# Altium schematic symbol library MySchLib.SchLib: 44 symbols
Pins are listed as number, name and electrical type; pins without a type are passive.

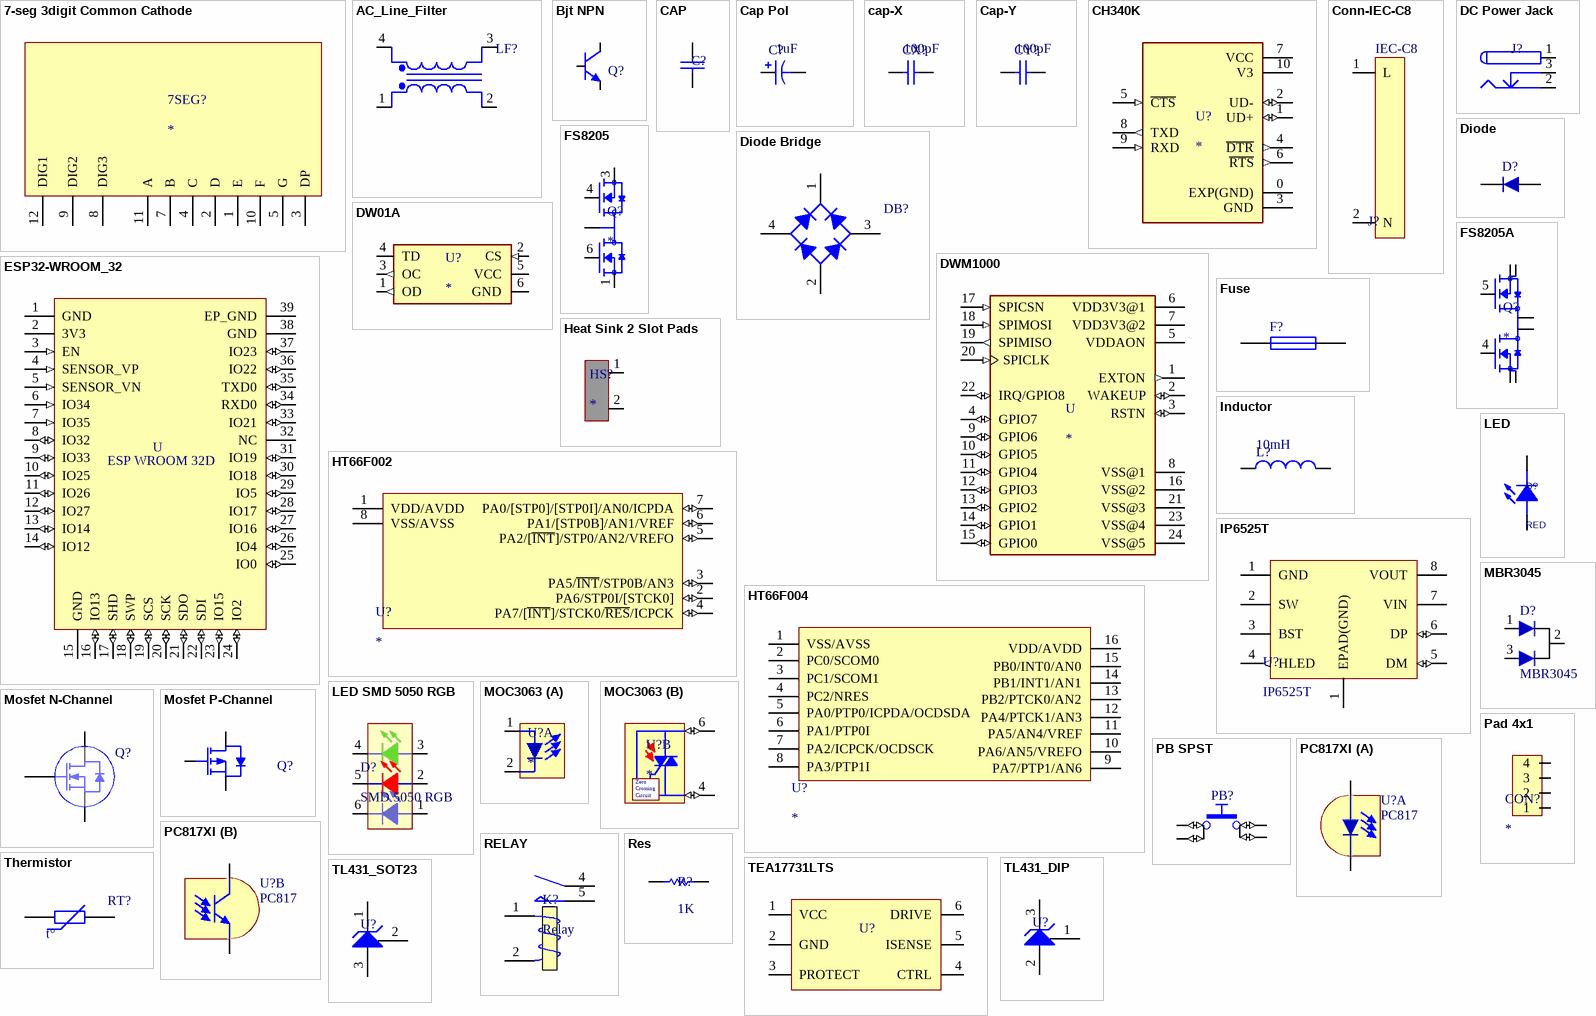
[diagram p0: symbols 7-seg 3digit Common Cathode to TL431_SOT23]

## 7-seg 3digit Common Cathode
designator 7SEG?
footprint 7-seg 0.36in 3-digit
pins: 1 E, 2 D, 3 DP, 4 C, 5 G, 7 B, 8 DIG3, 9 DIG2, 10 F, 11 A, 12 DIG1

## AC_Line_Filter
designator LF?
AC Line filter choke; Published: 8-Jun-2000; LatestRevisionDate: 17-Jul-2002; LatestRevisionNote: Re-released for DXP Platform.; PackageReference: TRF_4; Publisher: Altium Limited; PackageDescription: Transformer; 4 Leads
footprint LINEFILTER-7x8mm
pins: 1, 2, 3, 4  

## Bjt NPN
designator Q?
45 V, 500 mA NPN general-purpose transistors; Published: 2017-2-8; LatestRevisionDate: 2017; LatestRevisionNote: IPC-7351 Footprint Added.; DatasheetVersion: 2017; PackageVersion: 2017-2-8; PackageReference: SOT23; Publisher: Abbas Basereh; PackageDescription: 3-Pin SOT-23 Package 0.95 mm Pitch, 2.3 mm Lead Span; ComponentLink1Description: Manufacturer Link; ComponentLink1URL: http://www.nxp.com/; ComponentLink2Description: Datasheet; ComponentLink2URL: http://www.nxp.com/
footprint SOT-23_N (SOT23, 3-Leads, Body 2.9x1.3mm, Pitch 0.95mm, Lead Span 2.5mm, IPC Medium Density)
pins: 1 B, 2 E, 3 C

## CAP
designator C?
CAP 0805; Designer: Abbas Basereh; Desc.: CAP SMD 0805; Data: 16-12-2016
footprint CAP0805 (Chip Capacitor, 2-Leads, Body 2/00x1/25mm, IPC Medium Density DESIGNER:ABBAS BASEREH)
footprint CAP1206 (Chip Capacitor, 2-Leads, Body 3/20x1/60mm, IPC Medium Density DESIGNER:ABBAS BASEREH)
footprint Cap Film (W23_0_H14_5_T8_0_P20)
pins: 1, 2

## Cap Pol
designator C?  value 1uF
Polarized Capacitor; Published: 8-Jun-2000; LatestRevisionDate: 17-Jul-2002; LatestRevisionNote: Re-released for DXP Platform.; PackageReference: POLAR0.8; Publisher: Altium Limited; PackageDescription: Polarized Capacitor; 2 Leads
footprint CAP-Electrolitic-Hor-p7.5mm-D16mm-L27mm
footprint CAP-Electrolitic-Hor-LA-p2.5mm-D4mm-L9mm
footprint CAP-Electrolitic-Hor-LA-p7.5mm-D16mm-L27mm
footprint Cap electrolitic radial 10x16-5 (Cap electrolitic radial 10x16-5-Design:Abbas Basereh)
footprint Cap electrolitic radial 8x12-3.5 (Cap electrolitic radial 8x12-3.5-Design:Abbas Basereh)
footprint Cap electrolitic HOR-8x12-P3.5 (Cap electrolitic horisontal 8x12-3.5-Design:Mostafa)
pins: 1, 2
1 alternate drawing of the same symbol

## cap-X
designator CX?  value 100pF
Capacitor; Published: 8-Jun-2000; LatestRevisionDate: 17-Jul-2002; LatestRevisionNote: Re-released for DXP Platform.; PackageReference: RAD-0.3; Publisher: Altium Limited; PackageDescription: Radial Cap, Thru-Hole; 2 Leads; 0.3 in Pin Spacing
footprint CAP-MKT-15mm
pins: 1, 2

## Cap-Y
designator CY?  value 100pF
Capacitor; Published: 8-Jun-2000; LatestRevisionDate: 17-Jul-2002; LatestRevisionNote: Re-released for DXP Platform.; PackageReference: RAD-0.3; Publisher: Altium Limited; PackageDescription: Radial Cap, Thru-Hole; 2 Leads; 0.3 in Pin Spacing
footprint CAPRadial-5mm
footprint CAPRadial-7mm
pins: 1, 2

## CH340K
designator U?
USB to Serial Port Chip; MF: WCH; MP: CH340K; SnapEDA_Link: https://www.snapeda.com/parts/CH340K/WCH/view-part/?ref=snap; Package: Package; Value: *; Check_prices: https://www.snapeda.com/parts/CH340K/WCH/view-part/?ref=eda
footprint ESSOP-10
pins: 0 EXP(GND) (power), 1 UD+ (io), 2 UD- (io), 3 GND (power), 4 ~{DTR} (out), 5 ~{CTS} (in), 6 ~{RTS} (out), 7 VCC (power), 8 TXD (out), 9 RXD (in), 10 V3 (power)

## Conn-IEC-C8
designator J?
footprint Conn-IEC-C8
pins: 1 L, 2 N
text: IEC-C8

## DC Power Jack
designator J?  (value not drawn)
DC Power Jack. Center Pin 2.5mm. Diameter: 5.7mm; Designer: Ali Hafizi; Company: Personal; Project Name: Laser; Adding Date: 10/21/2009
footprint DC Power Jack 1 (Power Adaptor Jack)
footprint DC Power Jack 2 (DC Power Jack. Center Pin 2.5mm. Diameter: 5.7mm)
footprint Jack-DC002 3.5*1.3mmm (Dc power jack fermale)
pins: 1 (power), 2 (power), 3 (power)

## Diode
designator D?  (value not drawn)
Diode DIP Package; Published: 8-Jun-2000; LatestRevisionDate: 17-Jul-2002; LatestRevisionNote: Re-released for DXP Platform.; DatasheetVersion: 1997; Publisher: Altium Limited; PackageDescription: Diode, Axial; Body 3.8 x 1.9 mm (LxDia. max), Lead Dia. 0.53 mm (max); Code_JEDEC: DO-204-AH; ComponentLink1Description: Manufacturer Link; ComponentLink1URL: http://www.fairchildsemi.com/; ComponentLink2Description: Datasheet; ComponentLink2URL: http://www.fairchildsemi.com/ds/1N%2F1N4148.pdf
footprint DO 35 (Diode)
footprint DO-41 (Diode, Axial; Body 5.2 x 2.7 mm (LxDia. max), Lead Dia. 0.86 mm (max))
footprint DIOD - SMA
footprint SOD123 (SOD-123; 2 Leads; Body 2.7 x 1.6 mm, (LxW))
pins: 1, 2

## Diode Bridge
designator DB?  (value not drawn)
Full Wave Diode Bridge; Designer: Abbas Basereh; Design Date: 1395/11/09; ComponentLink1Description: Datasheet; ComponentLink2Description: Reference; Mounting Technology: Surface Mount\Through-Hole; Status: Unreleased
footprint BRIDGE KBP_LARGE
footprint SOIC-4_W
pins: 1 +, 2 -, 3 AC, 4 AC

## DW01A
designator U?
One Cell Lithium-ion/Polymer Battery Protection IC; MF: Fortune Semiconductor; MP: DW01A; SnapEDA_Link: https://www.snapeda.com/parts/DW01A/Fortune+Semiconductor/view-part/?ref=snap; Package: SOT-23-6 Fortune Semiconductor; Value: *; Check_prices: https://www.snapeda.com/parts/DW01A/Fortune+Semiconductor/view-part/?ref=eda
footprint SOT23-6
pins: 1 OD (out), 2 CS (in), 3 OC (out), 4 TD, 5 VCC (power), 6 GND (power)

## DWM1000
designator U
802.15.4 IR-UWB Transceiver Module 3.5GHz ~ 6.5GHz Integrated, Chip Surface Mount; MF: Decawave Limited; MP: DWM1000; Package: Module Decawave; Availability: Unavailable; Value: *; SnapEDA_Link: https://www.snapeda.com/parts/DWM1000/Decawave%20Limited/view-part/327593/?ref=snap; Price: None
footprint XCVR_DWM1000
pins: 1 EXTON (out), 2 WAKEUP (io), 3 RSTN (io), 4 GPIO7 (io), 5 VDDAON (power), 6 VDD3V3@1 (power), 7 VDD3V3@2 (power), 8 VSS@1 (power), 9 GPIO6 (io), 10 GPIO5 (io), 11 GPIO4 (io), 12 GPIO3 (io), 13 GPIO2 (io), 14 GPIO1 (io), 15 GPIO0 (io), 16 VSS@2 (power), 17 SPICSN (in), 18 SPIMOSI (in), 19 SPIMISO (out), 20 SPICLK (in), 21 VSS@3 (power), 22 IRQ/GPIO8 (io), 23 VSS@4 (power), 24 VSS@5 (power)

## ESP32-WROOM_32
designator U
ESP32-WROOM-32 module
footprint ESP32-WROOM-32D
pins: 1 GND, 2 3V3, 3 EN (in), 4 SENSOR_VP (in), 5 SENSOR_VN (in), 6 IO34 (in), 7 IO35 (in), 8 IO32 (io), 9 IO33 (io), 10 IO25 (io), 11 IO26 (io), 12 IO27 (io), 13 IO14 (io), 14 IO12 (io), 15 GND, 16 IO13 (io), 17 SHD (io), 18 SWP (io), 19 SCS (io), 20 SCK (io), 21 SDO (io), 22 SDI (io), 23 IO15 (io), 24 IO2 (io), 25 IO0 (io), 26 IO4 (io), 27 IO16 (io), 28 IO17 (io), 29 IO5 (io), 30 IO18 (io), 31 IO19 (io), 32 NC, 33 IO21 (io), 34 RXD0 (io), 35 TXD0 (io), 36 IO22 (io), 37 IO23 (io), 38 GND, 39 EP_GND
text: ESP WROOM 32D

## FS8205
designator Q?
Dual N-Channel Enhancement Mode Power MOSFET SOT23-6 package; MP: FS8205; MF: Fortune Semiconductor; SnapEDA_Link: https://www.snapeda.com/parts/FS8205/Fortune+Semiconductor/view-part/?ref=snap; Package: Package; Check_prices: https://www.snapeda.com/parts/FS8205/Fortune+Semiconductor/view-part/?ref=eda; Price: None; Value: *; Availability: Not in stock
footprint SOT23-6
pins: 1 S1, 2 D12, 3 S2, 4 G2, 5 D12, 6 G1

## FS8205A
designator Q?
Dual N-Channel Enhancement Mode Power MOSFET TSSOP-8 package; MP: FS8205A; MF: Fortune Semiconductor; Value: *; Availability: Not in stock; Package: Package; Price: None; SnapEDA_Link: https://www.snapeda.com/parts/FS8205A/Fortune+Semiconductor/view-part/?ref=snap; Check_prices: https://www.snapeda.com/parts/FS8205A/Fortune+Semiconductor/view-part/?ref=eda
footprint TSSOP-8
pins: 1 D12, 2 S1, 3 S1, 4 G1, 5 G2, 6 S2, 7 S2, 8 D12

## Fuse
designator F?
Fuse; Published: 8-Jun-2000; LatestRevisionDate: 17-Jul-2002; LatestRevisionNote: Re-released for DXP Platform.; PackageReference: PIN-W2/E2.8; Publisher: Altium Limited; PackageDescription: Thru-Hole; 2 Leads
footprint Fuse-DIP-p11.6mm
pins: 1, 2

## Heat Sink 2 Slot Pads
designator HS?
footprint Heat Sink 2 Slots
pins: 1, 2

## HT66F002
designator U?
Holtek 8bit MCU
footprint sop8
pins: 1 VDD/AVDD (power), 2 PA6/STP0I/[STCK0] (io), 3 PA5/~{INT}/STP0B/AN3 (io), 4 PA7/[~{INT}]/STCK0/~{RES}/ICPCK (io), 5 PA2/[~{INT}]/STP0/AN2/VREFO (io), 6 PA1/[STP0B]/AN1/VREF (io), 7 PA0/[STP0]/[STP0I]/AN0/ICPDA (io), 8 VSS/AVSS (power)

## HT66F004
designator U?
footprint SOP16
pins: 1 VSS/AVSS, 2 PC0/SCOM0, 3 PC1/SCOM1, 4 PC2/NRES, 5 PA0/PTP0/ICPDA/OCDSDA, 6 PA1/PTP0I, 7 PA2/ICPCK/OCDSCK, 8 PA3/PTP1I, 9 PA7/PTP1/AN6, 10 PA6/AN5/VREFO, 11 PA5/AN4/VREF, 12 PA4/PTCK1/AN3, 13 PB2/PTCK0/AN2, 14 PB1/INT1/AN1, 15 PB0/INT0/AN0, 16 VDD/AVDD

## Inductor
designator L?  value 10mH
Inductor; Code_IEC: 1005; Published: 8-Jun-2000; LatestRevisionDate: 29-May-2009; LatestRevisionNote: IPC-7351 Footprint Added.; PackageReference: 0402-A; Publisher: Altium Limited; PackageDescription: Chip Inductor; Code_JEITA: 0402
footprint POWER-INDUCTOR-8095
footprint IND1206 (Chip Inductor, 2-Leads, Body 3/20x1/60mm, IPC Medium Density DESIGNER:ABBAS BASEREH)
pins: 1, 2

## IP6525T
designator U?
18W OUTPUT STEP-DOWN CONVERTER with FAST CHARGE PROTOCOLS (DCP/QC2.0/QC3.0 FCP/AFC)
footprint ESOP8 (SOP with EPAD)
pins: 1 GND (power), 1 EPAD(GND) (power), 2 SW, 3 BST, 4 HLED (out), 5 DM (io), 6 DP (io), 7 VIN (power), 8 VOUT

## LED
designator D?, comment RED
Light Emitting Diode; Designer: Abbas Basereh; Data: 16-12-2016; Link: *; Part.No: *
footprint LED_5mm (LED 5MM THROUGH HOLE)
footprint LED0805
footprint LED3mm_P2.54_G
pins: 1 ANODE, 2 CATHODE

## LED SMD 5050 RGB
designator D?, comment Comment_1: SMD 5050 RGB  (hidden comment: probably led colors not mach to real please check the device and change the component)
SMD 5050 RGB LED; Designer: Abbas Basereh; Design Date: 1395/11/10; ComponentLink1Description: SMD 5050 RGB; ComponentLink1URL: http://www.yuanlei-led.com; ComponentLink2Description: Reference; PackageDescription: SMD 5050 RGB; Publisher: Abbas Basereh; Mounting Technology: Surface Mount; HelpURL: probably color of the leds not mached real please check and change; Pin Count: 6; Status: Unreleased
footprint 5050 LED package (DESIGNER ABBAS BASEREH)
pins: 1, 2, 3, 4, 5, 6

## MBR3045
designator D?
Power Schottky; Manufacturer: VISHAY; Designer: Mostafa Yaghmaei; Link: https://www.aliexpress.com/item/100PCS-MBR2045CT-MBR2045-MBR2045C-TO220/32576607386.html?spm=2114.01010208.3.1.vWJGYC&ws_ab_test=searchweb0_0,searchweb201602_4_10065_10068_10084_10083_10080_10082_10081_10060_10061_10062_10056_10055_10054_10059_10099_10078_10079_427_10073_10103_10102_10096_10052_10050_10051,searchweb201603_4&btsid=59d3c580-949c-4e8a-9059-0fcae782ffc8; Link: http://www.tme.eu/en/details/mbr2045ct-e3_45/tht-universal-diodes/vishay/; Link: http://www.digikey.com/product-detail/en/diodes-incorporated/MBR2045CTF-G1/MBR2045CTF-G1DI-ND/5453096; Part. No: MBR3045
footprint TO-220 AB (Epoxy meets UL94, V0-Design:Abbas Basereh)
pins: 1 A1 (power), 2 K (power), 3 A2 (power)

## MOC3063
designator U?
Zero-cross triac driver opto triac
footprint DIP6_surface mount
footprint DIP6-300 (DIP 6 Leads; Row Spacing 7.62 mm; Pitch 2.54 mm)
part A pins: 1 A, 2 K
part B pins: 4 (io), 6 (io)
part B text: Zero; Crossing; Circuit

## Mosfet N-Channel
designator Q?  (value not drawn)
MOSFET N-CH; Published: 2017-1-12; DatasheetVersion: 2017-1-12; PackageVersion: 2017-1-12; PackageReference: TO-220AB; Publisher: Abbas Basereh; PackageDescription: MOSFET N-CH 400V 10A TO-220AB; ComponentLink1Description: http://www.digikey.com/products/en/discrete-semiconductor-products/19; ComponentLink1URL: http://www.digikey.com/product-detail/en/vishay-siliconix/IRF740PBF/IRF740PBF-ND/812037; ComponentLink2Description: Datasheet; ComponentLink2URL: http://www.roboeq.ir/files/id/1101/name/IRF740A.pdf
footprint TO-220 (Epoxy meets UL94, V0)
pins: 1 G, 2 D (power), 3 S (power)

## Mosfet P-Channel
designator Q?
P-channel MOSFET; Note: Pin 2 is trimmed (and not drawn) and is electrically connected to Drain; Published: 2017-1-12; DatasheetVersion: 2017-1-12; PackageVersion: 2017-1-12; PackageReference: D-PAK TO-252; Publisher: Abbas Basereh; PackageDescription: D-PAK TO-252; ComponentLink1Description: Manufacturer Link; ComponentLink2Description: Datasheet; ComponentLink2URL: http://www.roboeq.ir/files/id/2912/name/aod472.pdf/
footprint SOT-23_N (SOT23, 3-Leads, Body 2.9x1.3mm, Pitch 0.95mm, Lead Span 2.5mm, IPC Medium Density)
pins: 1 G, 2 S, 3 D

## Pad 4x1
designator CON?
pads for In circuit programming using test pins
footprint Pad 4x1 (programming pads)
pins: 1, 2, 3, 4

## PB SPST
designator PB?
Push-Button Switch SPST
footprint PB-5x5x1.5mm (low profile tactile switch)
pins: 1 (io), 2 (io), 3 (io), 4 (io)

## PC817XI
designator U?, comment PC817
DIP 4pin General Purpose  Photocoupler; Published: 2017-2-27; DatasheetVersion: 2017-2-27; PackageVersion: 2017-2-27; PackageReference: SMT Gullwing Lead-Form; Publisher: Abbas Basereh; PackageDescription: SOP, 4-Leads, Body 4/65x6/75mm, Pitch 2/54mm, IPC Medium Density designer:abbas basereh; ComponentLink1Description: Manufacturer Link; ComponentLink1URL: http://www.roboeq.ir/files/id/233/name/PC817.pdf/; ComponentLink2Description: DIP 4pin General Purpose
footprint DIP4 2
part A pins: 1 A, 2 K
part B pins: 3 E, 4 C

## RELAY
designator K?, comment Relay
Relay_NO; Designer: Ali Hafizi; Company: E.P.I.L; Design_Date: 2011/10/31
footprint Relay T
footprint Relay HF7FD (16A Relay)
footprint Relay_mini_MPR-S-112-A (5A mini relay)
footprint RELAY HIGH POWER (NO) (MINIATURE HIGH POWER RELAY)
pins: 1 T1, 2 T2, 4 COM, 5 NO

## Res
designator R?, comment 1K
Resistor; Published: 8-Jun-2000; LatestRevisionDate: 29-May-2009; LatestRevisionNote: IPC-7351 Footprint Added.; PackageReference: J1-0603; Publisher: Altium Limited; PackageDescription: Chip Resistor
footprint RESC4817X04N (Chip Resistor, 2-Leads, Body 4/80x1/70mm, IPC Medium Density-Design:Abbas Basereh)
footprint RES0805 (Chip Resistor, 2-Leads, Body 2/00x1/25mm, IPC Medium Density DESIGNER:ABBAS BASEREH)
footprint RES1206 (Chip Resistor, 2-Leads, Body 3/20x1/60mm, IPC Medium Density DESIGNER:ABBAS BASEREH)
footprint ResVertical
footprint RES-(2/1)
footprint RESADV508-1670X520 (Resistor, Axial, Vertical Mount, Lead spacing 5.08 mm - Body Lengh 16.7mm X Body Diameter 5.2mm)
pins: 1, 2

## TEA17731LTS
designator U?
footprint TSOP6
pins: 1 VCC (power), 2 GND (power), 3 PROTECT, 4 CTRL, 5 ISENSE, 6 DRIVE

## Thermistor
designator RT?
footprint ThermistorAxial-5mm-6mm
footprint RES0805 (Chip Resistor, 2-Leads, Body 2/00x1/25mm, IPC Medium Density DESIGNER:ABBAS BASEREH)
footprint RES1206 (Chip Resistor, 2-Leads, Body 3/20x1/60mm, IPC Medium Density DESIGNER:ABBAS BASEREH)
pins: 1, 2
text: t°

## TL431_DIP
designator U?
three-terminal adjustable precision shunt voltage regulator
footprint TO-92_29-04 (TO, Flat Index; 3 In-Line, Axial Leads; Body Dia. 4.8mm; Leads 0.48 x 0.51 mm (max))
pins: 1 Ref, 2 A, 3 K

## TL431_SOT23
designator U?
three-terminal adjustable precision shunt voltage regulator
footprint SOT-23_N (SOT23, 3-Leads, Body 2.9x1.3mm, Pitch 0.95mm, Lead Span 2.5mm, IPC Medium Density)
pins: 1 K, 2 Ref, 3 A

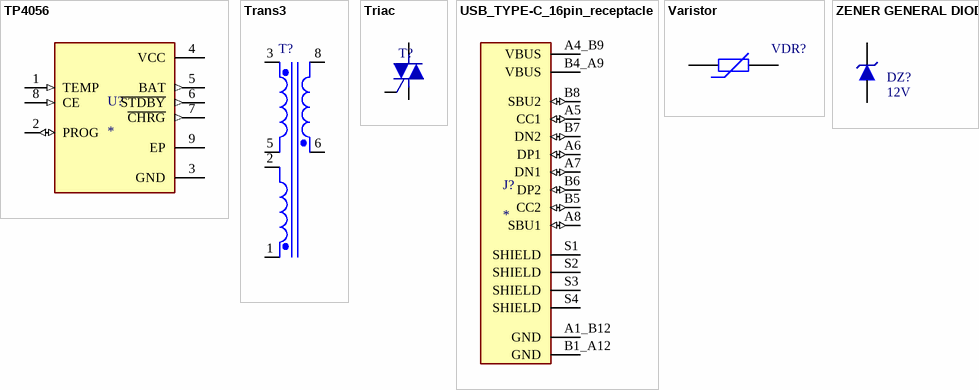
[diagram p1: symbols TP4056 to ZENER GENERAL DIODE]

## TP4056
designator U?
Complete single cell Li-Ion battery with a constant current / constant voltage linear charger; MF: NanJing Top Power ASIC Corp.; MP: TP4056; Check_prices: https://www.snapeda.com/parts/TP4056/NanJing+Top+Power+ASIC+Corp./view-part/?ref=eda; SnapEDA_Link: https://www.snapeda.com/parts/TP4056/NanJing+Top+Power+ASIC+Corp./view-part/?ref=snap; Price: None; Availability: Not in stock; Package: Package; Value: *
footprint ESOP8 (SOP with EPAD)
pins: 1 TEMP (in), 2 PROG (io), 3 GND (power), 4 VCC (power), 5 BAT (out), 6 ~{STDBY} (out), 7 ~{CHRG} (out), 8 CE (in), 9 EP

## Trans3
designator T?
Three-winding Transformer (Non-Ideal); Sim Note: Enter the turns ratios, Core loss resistance, Magnetising Reactance, Leakage Reactances and Resistances referred to the primary side into the parameter fields.; Published: 25-Jan-2001; LatestRevisionDate: 17-Jul-2002; LatestRevisionNote: Re-released for DXP Platform.; PackageReference: TRF_6; Publisher: Altium Limited; PackageDescription: Transformer; 6 Leads
footprint Trans-EI-28-20-11
pins: 1 AUX+, 2 AUX-, 3 Pri+, 5 Pri-, 6 Sec-, 8 Sec1+

## Triac
designator T?, comment Z01  (value not drawn)
Published: 8-Jun-2000; LatestRevisionDate: 17-Jul-2002; LatestRevisionNote: Re-released for DXP Platform.; DatasheetVersion: 1997; Publisher: Altium Limited; PackageDescription: Diode, Axial; Body 3.8 x 1.9 mm (LxDia. max), Lead Dia. 0.53 mm (max); Code_JEDEC: DO-204-AH; ComponentLink1Description: Manufacturer Link; ComponentLink1URL: http://www.fairchildsemi.com/; ComponentLink2Description: Datasheet; ComponentLink2URL: http://www.fairchildsemi.com/ds/1N%2F1N4148.pdf
footprint SOT223 (SOT223, 4-Leads, Body 6.5x3.5mm, Pitch 2.30mm-Designer Abbas Basereh)
pins: 1 A2, 2 A1, 3 G

## USB_TYPE-C_16pin_receptacle
designator J?
C Type USB Type-C Female Plug 16 Pin Connector Power Charger Jack Port; MP: CQ-USB-C16PSMT01; MF: Shenzen Chuangqin Technology; Price: None; Package: Package; Availability: Unavailable; SnapEDA_Link: https://www.snapeda.com/parts/CQ-USB-C16PSMT01/Shenzen%20Chuangqin%20Technology/view-part/5798994/?ref=snap; Check_prices: https://www.snapeda.com/parts/CQ-USB-C16PSMT01/Shenzen%20Chuangqin%20Technology/view-part/5798994/?ref=eda; Value: *
footprint GT-USB-7010A
pins: A1_B12 GND (power), A4_B9 VBUS (power), A5 CC1 (io), A6 DP1 (io), A7 DN1 (io), A8 SBU1 (io), B1_A12 GND (power), B4_A9 VBUS (power), B5 CC2 (io), B6 DP2 (io), B7 DN2 (io), B8 SBU2 (io), S1 SHIELD, S2 SHIELD, S3 SHIELD, S4 SHIELD

## Varistor
designator VDR?
footprint VDR-7.5mm
pins: 1, 2

## ZENER GENERAL DIODE
designator DZ?, comment 12V
DIODE ZENER GENERAL; Published: 2017-1-12; PackageVersion: 2017-1-12; PackageReference: DO 35; Publisher: Abbas Basereh; PackageDescription: DIODE GEN ZENER; ComponentLink1Description: Manufacturer Link; ComponentLink2Description: Datasheet; VALUE: 12V
footprint DO 35 (Diode)
footprint SOD123 (SOD-123; 2 Leads; Body 2.7 x 1.6 mm, (LxW))
footprint MELF (MELF SMD Diod)
footprint MiniMELF
pins: 1, 2